# EAGLE library part TMUX1072DGSR (library SamacSys_Parts)
2-Channel 2:1 Analog Multiplexer With 20-V Overvoltage Protection Source: Datasheet <http://www.ti.com/lit/gpn/tmux1072>
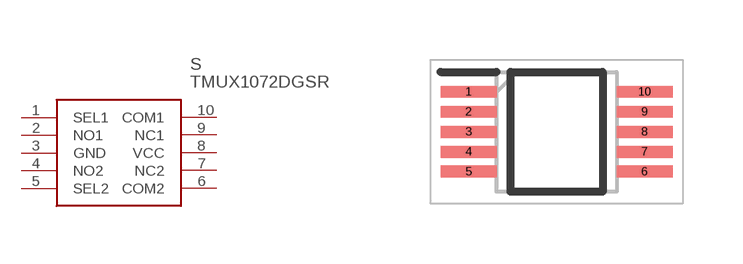
[diagram p2: symbol with the pads of SOP50P490X110-10N; footprint SOP50P490X110-10N]

Designator prefix S

## TMUX1072DGSR (Description: 2-Channel 2:1 Analog Multiplexer With 20-V Overvoltage Protection; Height: 1.1mm; Manufacturer_Name: Texas Instruments; Manufacturer_Part_Number: TMUX1072DGSR; Mouser_Part_Number: 595-TMUX1072DGSR; Mouser_Price-Stock: https://www.mouser.co.uk/ProductDetail/Texas-Instruments/TMUX1072DGSR?qs=55YtniHzbhBYIU2wDGSr4Q%3D%3D)  [SOP50P490X110-10N]
1  SEL1
2  NO1
3  GND
4  NO2
5  SEL2
6  COM2
7  NC2
8  VCC
9  NC1
10  COM1

## Footprint SOP50P490X110-10N (pad centres in mm)
DGS (S-PDSO-G10)
smd 1.4 x 0.3: 1 -2.2,1; 2 -2.2,0.5; 3 -2.2,0; 4 -2.2,-0.5; 5 -2.2,-1; 6 2.2,-1; 7 2.2,-0.5; 8 2.2,0; 9 2.2,0.5; 10 2.2,1